# Altium footprint library BUTTON_6P.PcbLib: 1 footprints
Each footprint in its own frame and in the unit in brackets; x right, y up, seen from the top. Pads: shape width x height; smd on the part's side, far side on the other; paste and mask are expansions set on the pad; w line width, h text height; cw(c..) or ccw(c..) is an arc to the next point about the centre after c.
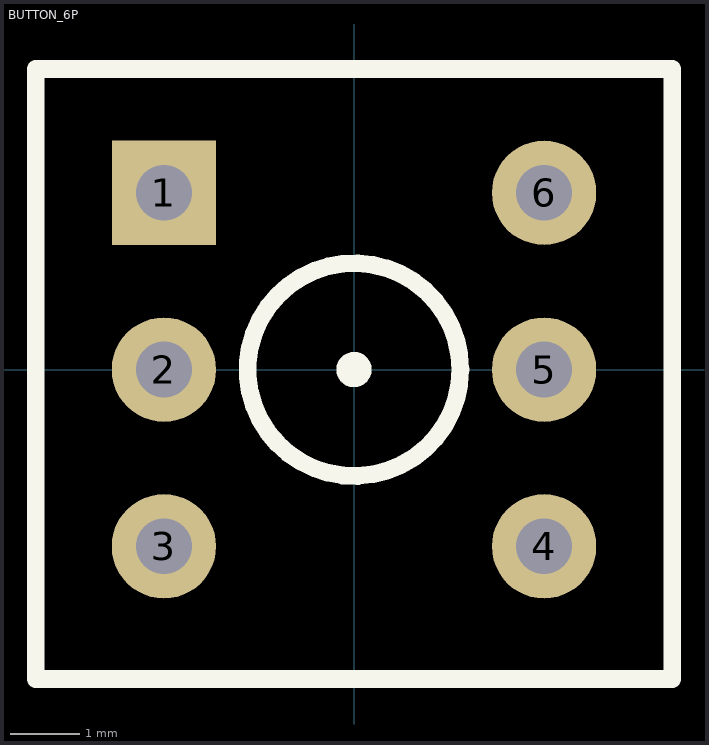
[diagram p0: the footprint, top view; thin cyan lines are the x and y axes]

## BUTTON_6P [mm] "自锁按钮/直插"
pads (6):
  rect 1.5x1.5 hole 0.8: 1(-2.73,2.54)
  round 1.5 hole 0.8: 2(-2.73,0) 3(-2.73,-2.54) 4(2.73,-2.54) 5(2.73,0) 6(2.73,2.54)
Top Overlay:
  circle w0.254: c0,0 r0.127
  circle w0.254: c0,0 r1.529
  lines w0.254: -4.572,-4.445 -4.572,4.318 4.572,4.318 4.572,-4.445 -4.572,-4.445